# Altium schematic symbol library DMTH15H017LPSWQ.SchLib: 1 symbol
Pins are listed as number, name and electrical type; pins without a type are passive.

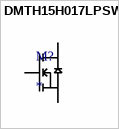
[diagram p0: symbol DMTH15H017LPSWQ]

## DMTH15H017LPSWQ
designator M?
footprint PowerDI5060-8; pin to pad 33>17 34>18+19+20 35>21
pins: 33 D, 34 S, 35 G